# Altium footprint library Header-1.27mm-2X24-M-V.PcbLib: 1 footprints
Each footprint in its own frame and in the unit in brackets; x right, y up, seen from the top. Pads: shape width x height; smd on the part's side, far side on the other; paste and mask are expansions set on the pad; w line width, h text height; cw(c..) or ccw(c..) is an arc to the next point about the centre after c.
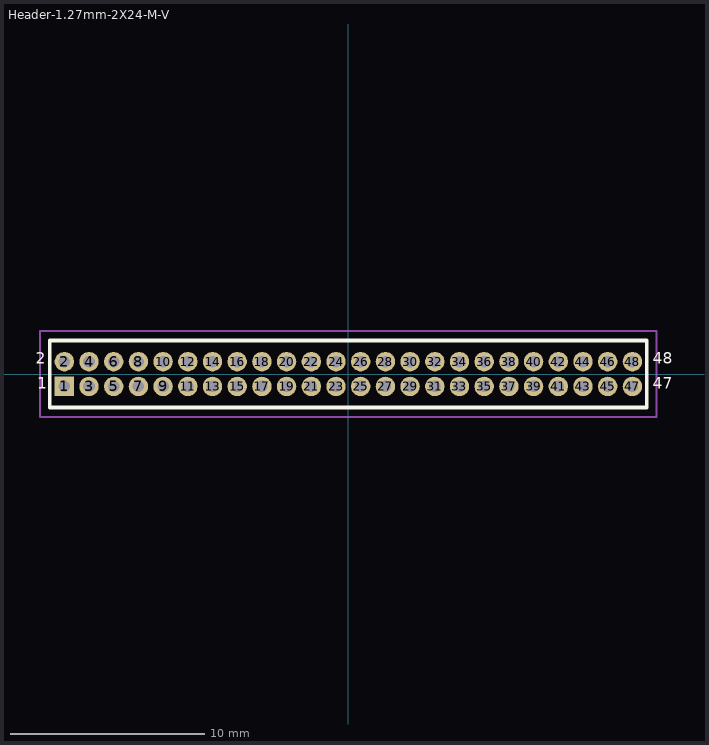
[diagram p0: the footprint, top view; thin cyan lines are the x and y axes]

## Header-1.27mm-2X24-M-V [mm]
pads (48):
  rect 1x1 hole 0.6: 1(-14.605,-0.635)
  round 1 hole 0.6: 2(-14.605,0.635) 3(-13.335,-0.635) 4(-13.335,0.635) 5(-12.065,-0.635) 6(-12.065,0.635) 7(-10.795,-0.635) 8(-10.795,0.635) 9(-9.525,-0.635) 10(-9.525,0.635) 11(-8.255,-0.635) 12(-8.255,0.635) 13(-6.985,-0.635) 14(-6.985,0.635) 15(-5.715,-0.635) 16(-5.715,0.635) 17(-4.445,-0.635) 18(-4.445,0.635) 19(-3.175,-0.635) 20(-3.175,0.635) 21(-1.905,-0.635) 22(-1.905,0.635) 23(-0.635,-0.635) 24(-0.635,0.635) 25(0.635,-0.635) 26(0.635,0.635) 27(1.905,-0.635) 28(1.905,0.635) 29(3.175,-0.635) 30(3.175,0.635) 31(4.445,-0.635) 32(4.445,0.635) 33(5.715,-0.635) 34(5.715,0.635) 35(6.985,-0.635) 36(6.985,0.635) 37(8.255,-0.635) 38(8.255,0.635) 39(9.525,-0.635) 40(9.525,0.635) 41(10.795,-0.635) 42(10.795,0.635) 43(12.065,-0.635) 44(12.065,0.635) 45(13.335,-0.635) 46(13.335,0.635) 47(14.605,-0.635) 48(14.605,0.635)
Top Overlay:
  lines w0.2: -15.355,-1.71 15.345,-1.71 15.345,1.715 -15.355,1.715 -15.355,-1.71
  text "48" at 15.651,0.319 h1
  text "47" at 15.651,-0.956 h1
  text "2" at -16.07,0.313 h1
  text "1" at -15.996,-0.957 h1
Top Courtyard:
  lines w0.1: -15.855,-2.21 -15.355,-2.21 15.845,-2.21 15.845,2.215 -15.855,2.215 -15.855,-2.21
3D body "FTS-124-01-F-D.stp": height 3.91, standoff -2.29, extent -15.24,-1.715 15.24,1.715